# Altium schematic symbol library SCH - POWER - LINEAR VREG - TI LP3872EMP-1.8.SchLib: 1 symbol
Pins are listed as number, name and electrical type; pins without a type are passive.

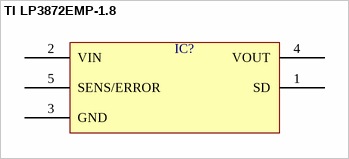
[diagram p0: symbol TI LP3872EMP-1.8]

## TI LP3872EMP-1.8
designator IC?  (value not drawn)
pins: 1 SD, 2 VIN, 3 GND, 4 VOUT, 5 SENS/ERROR